# Altium footprint library coil.PcbLib: 1 footprints
Each footprint in its own frame and in the unit in brackets; x right, y up, seen from the top. Pads: shape width x height; smd on the part's side, far side on the other; paste and mask are expansions set on the pad; w line width, h text height; cw(c..) or ccw(c..) is an arc to the next point about the centre after c.
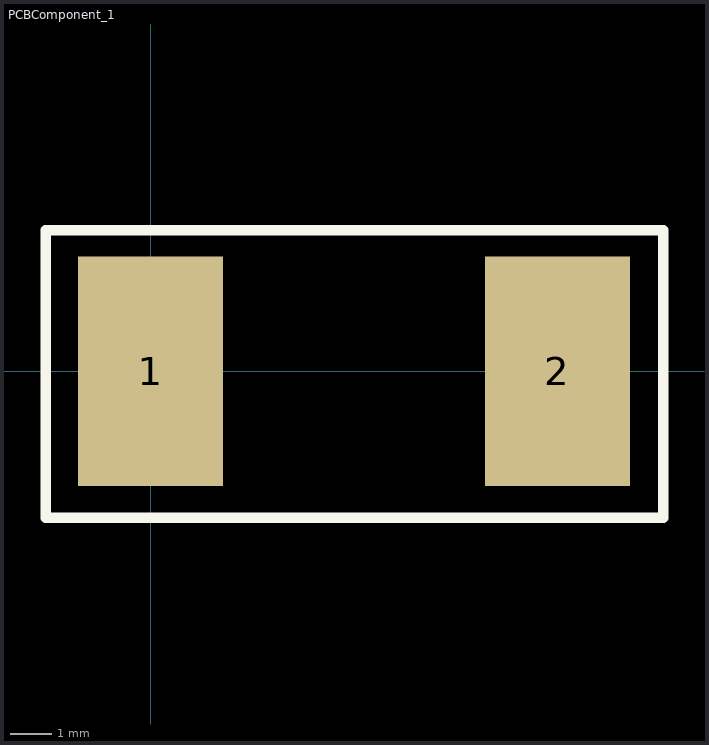
[diagram p0: the footprint, top view; thin cyan lines are the x and y axes]

## PCBComponent_1 [mm]
pads (2):
  rect 3.53x5.57 smd: 1(0,0) 2(9.88,0)
Top Overlay:
  lines w0.254: -2.54,-3.556 12.446,-3.556 12.446,3.429 -2.54,3.429 -2.54,-3.556
3D body "pm127sh-330m-rc.stp": height 7.5, standoff 0, extent -0.789,-6.377 11.711,6.123